# Altium footprint library Footprint.PcbLib: 97 footprints (part 1 of 7)
Each footprint in its own frame and in the unit in brackets; x right, y up, seen from the top. Pads: shape width x height; smd on the part's side, far side on the other; paste and mask are expansions set on the pad; w line width, h text height; cw(c..) or ccw(c..) is an arc to the next point about the centre after c.
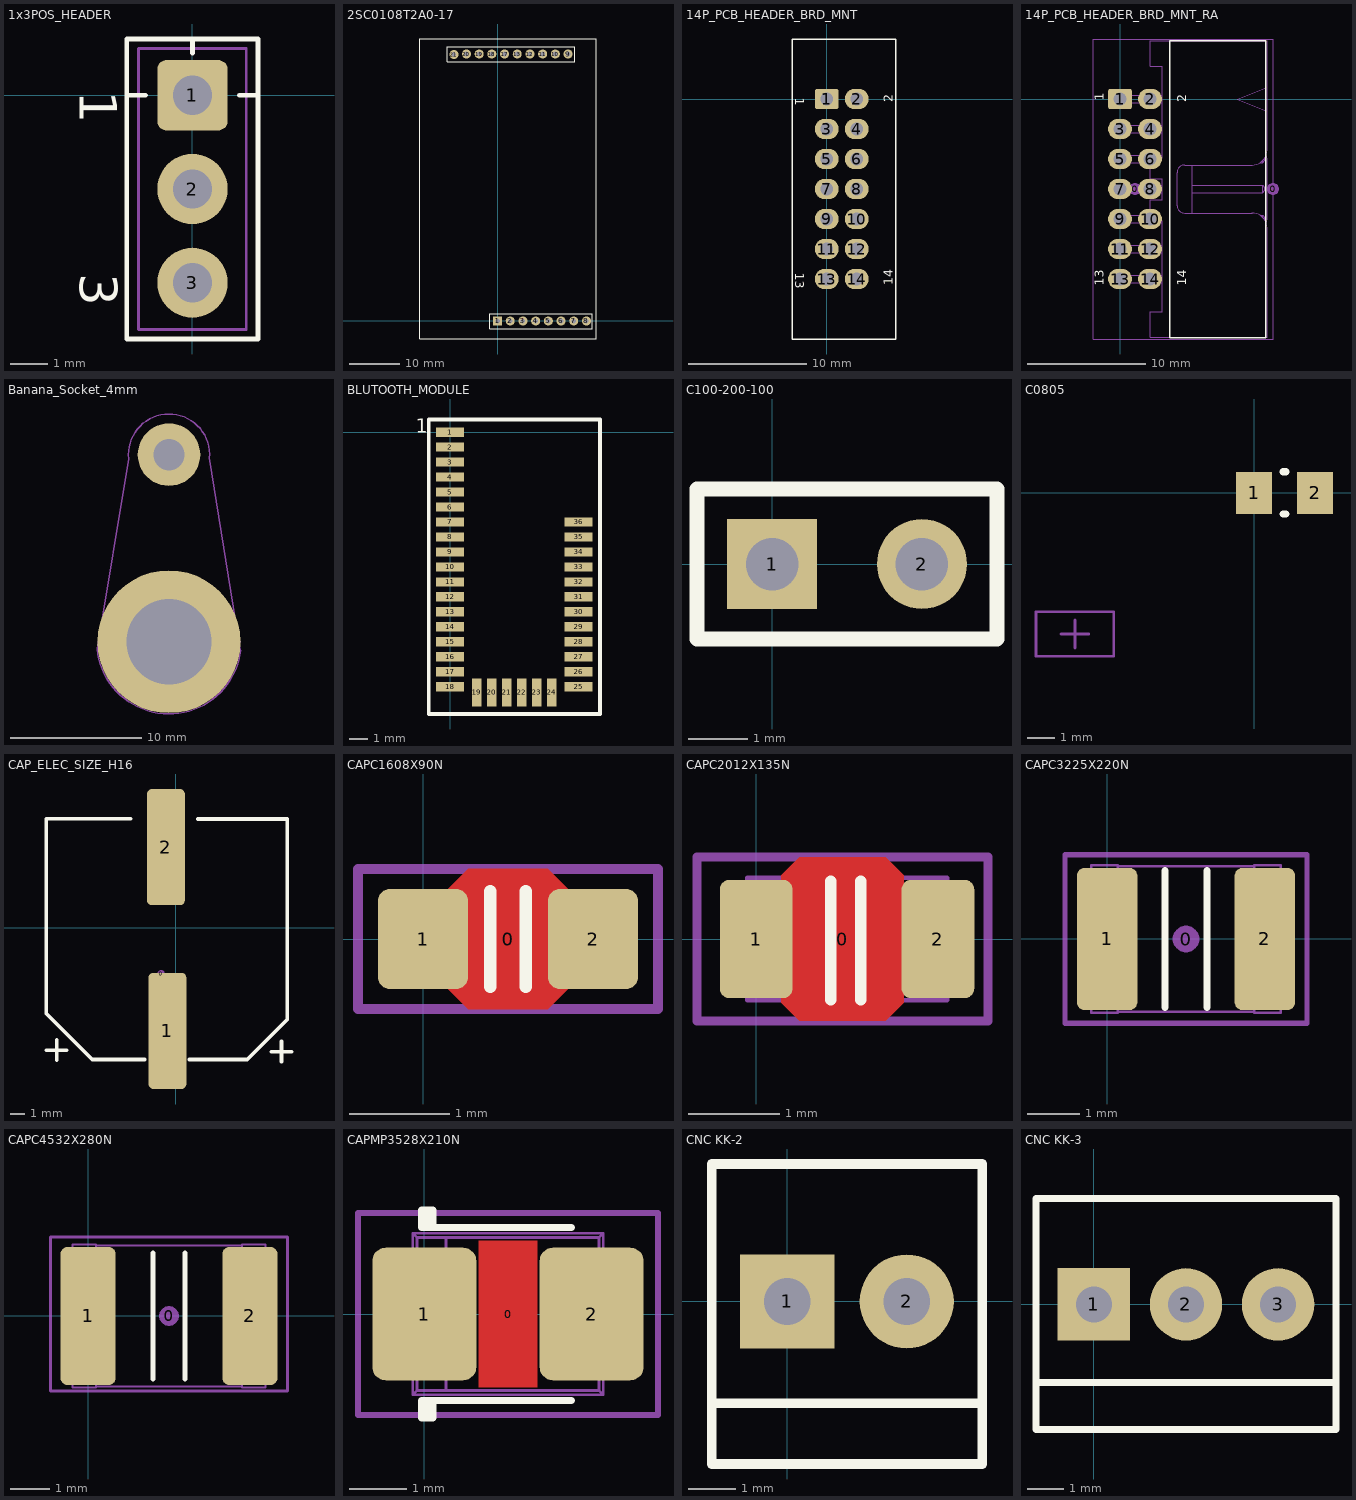
[diagram p0: the footprints below, top view; thin cyan lines are the x and y axes]

## 1x3POS_HEADER [mil] "Connector Header, Single-row 3-position, 0.100\" pitch"
height 235
pads (3):
  rrect25% 75x75 hole 42: 1(0,0)
  round 75 hole 42: 2(0,-100) 3(0,-200)
Top Overlay:
  lines w5: -70,0 -50,0 ; 0,45 0,60 ; 50,0 70,0 ; -70,-260 -70,60 70,60 70,-260 -70,-260
  text "3" at -120,-190 h40
  text "1" at -120,5 h40
Mechanical 13:
  lines w3: -57.47,-250 -57.47,50 57.49,50 57.49,-250 -57.47,-250
3D body: height 335.04, standoff -144.88, extent -57.47,-250 57.49,50

## 2SC0108T2A0-17 [mm]
pads (18):
  rect 1.8x1.8 hole 0.914 unplated: 1(0,0)
  round 1.8 hole 0.914 unplated: 2(2.54,0) 3(5.08,0) 4(7.62,0) 5(10.16,0) 6(12.7,0) 7(15.24,0) 8(17.78,0) 9(14.1,53.4) 10(11.56,53.4) 11(9.02,53.4) 12(6.48,53.4) 13(3.94,53.4) 17(1.4,53.4) 18(-1.14,53.4) 19(-3.68,53.4) 20(-6.22,53.4) 21(-8.72,53.3)
Top Overlay:
  lines w0.102: -15.56,-3.6 -15.56,56.4 19.74,56.4 19.74,-3.6 -15.56,-3.6 ; -10.06,51.9 -10.06,54.9 15.44,54.9 15.44,51.9 -10.06,51.9 ; -1.56,-1.6 -1.56,1.4 18.94,1.4 18.94,-1.6 -1.56,-1.6
3D body: height 18.4, standoff 6.4, extent -15.36,10.7 19.64,30.7
3D body: height 4.5, standoff 0, extent -1.56,4.9 18.94,7.9
3D body: height 4.5, standoff 0, extent -10.06,44.9 15.44,47.9
3D body: height 1, standoff 0, extent -15.46,-3.7 19.74,56.5
3D body: height 6.5, standoff 4.5, extent -15.06,3.9 19.23,48.9
3D body: height 4.5, standoff 0, extent -1.56,-1.6 18.94,1.4
3D body: height 4.5, standoff 0, extent -10.06,51.9 15.44,54.9

## 14P_PCB_HEADER_BRD_MNT [mil] "HEADER BRD MNT 14POS 2.54MM"
height 390
pads (14):
  rrect25% 80x68 hole 42: 1(0,0)
  oval 80x68 hole 42: 2(100,0) 3(0,-100) 4(100,-100) 5(0,-200) 6(100,-200) 7(0,-300) 8(100,-300) 9(0,-400) 10(100,-400) 11(0,-500) 12(100,-500) 13(0,-600) 14(100,-600)
Top Overlay:
  lines w5: -115,-800 230,-800 230,200 -115,200 -115,-800
  text "13" at -105,-579 h30
  text "14" at 220,-620.28 h30
  text "1" at -105,3.57 h30
  text "2" at 220,-10 h30
3D body: height 372.44, standoff -125.98, extent -125.19,-800 237.01,200

## 14P_PCB_HEADER_BRD_MNT_RA [mil] "HEADER BRD MNT R/A 14POS 2.54MM"
height 338
pads (16):
  round 40 on Mech15: 0(50,-300) 0(510,-300)
  rrect25% 80x68 hole 42: 1(0,0)
  oval 80x68 hole 42: 2(100,0) 3(0,-100) 4(100,-100) 5(0,-200) 6(100,-200) 7(0,-300) 8(100,-300) 9(0,-400) 10(100,-400) 11(0,-500) 12(100,-500) 13(0,-600) 14(100,-600)
Top Overlay:
  lines w5: 165,-795 485,-795 485,195 165,195 165,-795
  text "13" at -55,-623 h30
  text "14" at 220,-623 h30
  text "1" at -55,-5 h30
  text "2" at 220,-10 h30
Mechanical 13:
  lines w1.97: 32.5,-612.25 32.5,-587.75 ; 32.5,-512.25 32.5,-487.75 ; 32.5,-412.25 32.5,-387.75 ; 32.5,-312.25 32.5,-287.75 ; 32.5,-212.25 32.5,-187.75 ; 32.5,-112.25 32.5,-87.75 ; 32.5,-12.25 32.5,12.25 ; 100,-387.75 -12.5,-387.75 -12.5,-412.25 140,-412.25 ; 100,-212.25 -12.5,-212.25 -12.5,-187.75 140,-187.75 ; 140,-612.25 -12.5,-612.25 -12.5,-587.75 140,-587.75 ; 140,-512.25 -12.5,-512.25 -12.5,-487.75 140,-487.75 ; 140,-312.25 -12.5,-312.25 -12.5,-287.75 140,-287.75 ; 140,-112.25 -12.5,-112.25 -12.5,-87.75 140,-87.75 ; 140,-12.25 -12.5,-12.25 -12.5,12.25 140,12.25 ; 240,-380 240,-220 ; 240,-312.25 475,-312.25 ; 240,-287.75 475,-287.75 ; 466.74,-387.75 475,-387.75 ; 466.74,-212.25 475,-212.25 ; 475,-394.29 475,-387.75 ; 475,-205.71 475,-212.25 ; 483,-404.25 483,-395.75 475,-387.75 ; 483,-195.75 483,-204.25 475,-212.25 ; 487.7,-415 ccw(c440,-400) 490,-400 490,-200 ccw(c440,-200) 487.7,-185 ; 490,-40 390,0 490,40 ; 475,-312.25 483,-304.25 483,-295.75 475,-287.75 ; 475,-312.25 475,-287.75 ; 100,-794 100,-709 140,-709 140,-405 100,-405 100,-335 140,-335 140,-265 100,-265 100,-195 140,-195 140,109 100,109 100,194 490,194 490,-170 cw(c440,-170) 440,-220 215,-220 ccw(c215,-245) 190,-245 190,-355 ccw(c215,-355) 215,-380 440,-380 cw(c440,-430) 490,-430 490,-794 100,-794
Mechanical 15:
  lines w3: -90,-800 510,-800 510,200 -90,200 -90,-800
3D body: height 340, standoff -112, extent -12.49,-793.99 490.01,194.01

## Banana_Socket_4mm [mil]
pads (2):
  round 429.13 hole 255.91: ""(50445,50035)
  round 188 hole 94: ""(50445,50597)
Mechanical 1:
  lines w4: 50659,50035 50660,50035 ; 50229.06,50013.63 ccw(c50445,50035) 50660.51,50009.57 50659,50009.57 50566,50586.91 50566.58,50586.91 ccw(c50445,50597) 50323.64,50584.53 50229.06,50013.63
3D body: height 83, standoff 0, extent 50231.69,49820.42 50660,50249.58
3D body: height 166, standoff 83, extent 50209.87,49798.47 50682,50271.53
3D body: height 402, standoff 166, extent 50249.56,49838.39 50642,50231.61
3D body: height 257, standoff 0, extent 50319,49908.25 50572,50161.75
3D body: height 10, standoff 0, extent 50239,50073.65 50646.69,50554
3D body: height 10, standoff 0, extent 50318.58,50550 50447,50718
3D body: height 10, standoff 0, extent 50442,50550 50571.62,50718
3D body: height 403, standoff 402, extent 50350.75,49940.19 50540,50129.81

## BLUTOOTH_MODULE [mm]
pads (36):
  rect 1.5x0.5 smd: 1(0,0) 2(0,-0.8) 3(0,-1.6) 4(0,-2.4) 5(0,-3.2) 6(0,-4) 7(0,-4.8) 8(0,-5.6) 9(0,-6.4) 10(0,-7.2) 11(0,-8) 12(0,-8.8) 13(0,-9.6) 14(0,-10.4) 15(0,-11.2) 16(0,-12) 17(0,-12.8) 18(0,-13.6) 25(6.85,-13.6) 26(6.85,-12.8) 27(6.85,-12) 28(6.85,-11.2) 29(6.85,-10.4) 30(6.85,-9.6) 31(6.85,-8.8) 32(6.85,-8) 33(6.85,-7.2) 34(6.85,-6.4) 35(6.85,-5.6) 36(6.85,-4.8)
  rect 0.5x1.5 smd: 19(1.425,-13.9) 20(2.225,-13.9) 21(3.025,-13.9) 22(3.825,-13.9) 23(4.625,-13.9) 24(5.425,-13.9)
Top Overlay:
  lines w0.2: -1.15,-15.05 -1.15,0.675 8,0.675 8,-15.05 -1.15,-15.05
  text "1" at -1.829,-0.305 h1.27

## C100-200-100 [mil] "Radial Cap, Thru-Hole; 2 Leads; 0.1 in Pin Spacing"
pads (2):
  rect 60x60 hole 35: 1(0,0)
  round 60 hole 35: 2(100,0)
Top Overlay:
  lines w10: -50,-50 -50,50 150,50 150,-50 -50,-50
3D body: height 245, standoff -66.85, extent -64.93,-35 164.93,31.79

## C0805 [mm] "Chip Capacitor, Body 2.0x1.3mm, IPC High Density"
height 1.4
pads (2):
  rect 1.3x1.5 smd: 1(0,0) 2(2.2,0)
Top Overlay:
  lines w0.254: 1.049,-0.762 1.151,-0.762 ; 1.049,0.762 1.151,0.762
Mechanical 15:
  lines w0.1: -6.952,-5.08 -5.952,-5.08 ; -6.452,-5.58 -6.452,-4.58 ; -7.852,-5.88 -5.052,-5.88 -5.052,-4.28 -7.852,-4.28 -7.852,-5.88
3D body: height 0.78, standoff 0, extent 0.1,-0.635 2.1,0.615

## CAP_ELEC_SIZE_H16 [mil] "Capacitor, polarized, aluminum can; 16x6mm DxH"
height 629.92
pads (3):
  round 20 on Mech15: 0(-40,-124)
  rrect25% 102.36x314.96 smd: 1(-23,-279) 2(-27,219)
Top Overlay:
  lines w10: -350.46,-331.15 -295.35,-331.15 ; -322.91,-358.71 -322.91,-303.59 ; -122,295.94 -351,295.94 -351,-232.06 -226.35,-356.71 -84,-356.71 ; 37.12,-356.71 193.35,-356.71 302,-248.06 302,294.94 59,294.94 ; 258.54,-335.15 313.65,-335.15 ; 286.09,-362.71 286.09,-307.59
Mechanical 13:
  lines w1.97: -35.72,-399.74 -35.72,-425.33 -0.28,-425.33 -0.28,-399.74 ; -35.72,139.63 -35.72,165.22 -0.28,165.22 -0.28,139.63
3D body: height 669.29, standoff 0, extent -347.8,-388.27 301.81,308.58

## CAPC1608X90N [mm] "Chip Capacitor, Body 1.6x0.8mm, EIA 0603, IPC Medium Density"
height 0.9
pads (3):
  round 0.254 on Mech15: 0(0.85,0)
  rrect25% 0.9x1 smd: 1(0,0) 2(1.7,0)
Top Layer:
  pour cut-out: 0.25,0.5 0.45,0.7 1.25,0.7 1.45,0.5 1.45,-0.5 1.25,-0.7 0.45,-0.7 0.25,-0.5
Top Overlay:
  lines w0.127: 0.672,-0.476 0.672,0.476 ; 1.028,-0.476 1.028,0.476
Mechanical 13:
  lines w0.05: 0.3,-0.43 1.4,-0.43 ; 0.3,0.43 1.4,0.43 ; 0,-0.45 0.3,-0.45 0.3,0.45 0,0.45 0,-0.45 ; 1.4,-0.45 1.7,-0.45 1.7,0.45 1.4,0.45 1.4,-0.45
Mechanical 15:
  lines w0.1: -0.65,-0.7 2.35,-0.7 2.35,0.7 -0.65,0.7 -0.65,-0.7
3D body: height 0.89, standoff -0.01, extent 0,-0.45 1.7,0.45

## CAPC2012X135N [mm] "Chip Capacitor, Body 2.0x1.2mm, EIA 0805, IPC Medium Density"
height 1.35
pads (3):
  round 0.254 on Mech15: 0(0.949,0)
  rrect25% 0.8x1.3 smd: 1(0,0) 2(2,0)
Top Layer:
  pour cut-out: 0.274,0.7 0.474,0.9 1.424,0.9 1.624,0.7 1.624,-0.7 1.424,-0.9 0.474,-0.9 0.274,-0.7
Top Overlay:
  lines w0.127: 0.822,-0.667 0.822,0.635 ; 1.152,-0.667 1.152,0.635
Mechanical 13:
  lines w0.05: 1.6,-0.674 0.4,-0.674 ; 0.4,-0.675 0.4,0.675 -0.1,0.675 -0.1,-0.675 0.4,-0.675 ; 0.4,-0.674 1.6,-0.674 ; 1.6,-0.675 1.6,0.675 ; 1.6,-0.675 2.1,-0.675 2.1,0.675 1.6,0.675 ; 1.6,0.674 0.4,0.674 1.6,0.674
Mechanical 15:
  lines w0.1: -0.651,-0.9 -0.651,0.9 2.549,0.9 2.549,-0.9 -0.651,-0.9
3D body: height 0.69, standoff -0.01, extent -0.1,-0.675 2.1,0.675

## CAPC3225X220N [mm] "Chip Capacitor, Body 3.2x2.5mm, EIA 1210, IPC Medium Density"
height 2.2
pads (3):
  round 0.508 on Mech15: 0(1.5,0)
  rrect25% 1.15x2.7 smd: 1(0,0) 2(3,0)
Top Overlay:
  lines w0.127: 1.1,-1.3 1.1,1.3 ; 1.9,-1.3 1.9,1.3
Mechanical 13:
  lines w0.05: 0.2,-1.38 2.8,-1.38 ; 0.2,1.38 2.8,1.38 ; -0.3,-1.4 0.2,-1.4 0.2,1.4 -0.3,1.4 -0.3,-1.4 ; 2.8,-1.4 2.8,1.4 3.3,1.4 3.3,-1.4 2.8,-1.4
Mechanical 15:
  lines w0.1: -0.8,-1.6 -0.8,1.6 3.8,1.6 3.8,-1.6 -0.8,-1.6
3D body: height 2.19, standoff -0.01, extent -0.3,-1.4 3.3,1.4

## CAPC4532X280N [mm] "Chip Capacitor, Body 4.5x3.2mm, 1812, IPC Medium Density"
height 2.8
pads (3):
  round 0.508 on Mech15: 0(2.05,0)
  rrect25% 1.4x3.5 smd: 1(0,0) 2(4.1,0)
Top Overlay:
  lines w0.127: 1.65,-1.6 1.65,1.6 ; 2.45,-1.6 2.45,1.6
Mechanical 13:
  lines w0.05: 0.2,-1.791 3.9,-1.791 ; 0.2,1.791 3.9,1.791 ; -0.4,-1.811 -0.4,1.811 0.2,1.811 0.2,-1.811 -0.4,-1.811 ; 3.9,-1.811 4.5,-1.811 4.5,1.811 3.9,1.811 3.9,-1.811
Mechanical 15:
  lines w0.076: -0.95,-1.9 -0.95,2 5.05,2 5.05,-1.9 -0.95,-1.9
3D body: height 2.79, standoff -0.01, extent -0.4,-1.8 4.5,1.8

## CAPMP3528X210N [mm] "Molded body capacitor, Body 3.5x2.8mm, 1210, IPC Nominal settings"
height 2.1
pads (3):
  round 0.254 on Mech15: 0(1.45,0)
  rrect25% 1.8x2.3 smd: 1(0,0) 2(2.9,0)
Top Layer:
  pour cut-out: 0.942,1.27 1.958,1.27 1.958,-1.27 0.942,-1.27
Top Overlay:
  lines w0.127: 0.05,-1.8 0.05,-1.5 ; 0.05,1.5 0.05,1.8 ; 0.15,-1.5 0.15,-1.8 -0.05,-1.8 -0.05,-1.5 2.55,-1.5 ; 0.15,1.5 0.15,1.8 -0.05,1.8 -0.05,1.5 2.55,1.5
Mechanical 13:
  lines w0.05: -0.3,-0.55 -0.2,-0.55 ; -0.3,0.55 -0.2,0.55 ; -0.2,-1.1 -0.3,-1.1 -0.3,1.1 -0.2,1.1 ; 0.373,-1.327 0.373,1.327 ; 3.1,-1.1 3.2,-1.1 3.2,1.1 3.1,1.1 ; 3.1,-0.55 3.2,-0.55 ; 3.1,0.55 3.2,0.55 ; -0.2,-1.4 -0.127,-1.327 ; -0.2,-1.4 -0.2,1.4 ; -0.2,-1.4 3.1,-1.4 ; -0.2,1.4 -0.127,1.327 ; -0.2,1.4 3.1,1.4 ; -0.127,-1.327 -0.127,1.327 ; -0.127,-1.327 3.027,-1.327 ; -0.127,1.327 3.027,1.327 ; 3.027,-1.327 3.027,1.327 ; 3.027,-1.327 3.1,-1.4 ; 3.027,1.327 3.1,1.4 ; 3.1,-1.4 3.1,1.4
Mechanical 15:
  lines w0.1: -1.15,-1.75 -1.15,1.75 4.05,1.75 4.05,-1.75 -1.15,-1.75
3D body: height 2.1, standoff 0, extent -0.3,-1.4 3.2,1.4

## CNC KK-2 [mm]
pads (2):
  rect 2x2 hole 0.991: 1(0,0)
  round 2 hole 0.991: 2(2.54,0)
Top Overlay:
  lines w0.203: -1.6,-2.159 4.089,-2.159 ; -1.6,-3.454 4.14,-3.454 4.14,2.921 -1.6,2.921 -1.6,-3.454
3D body: height 10.68, standoff -3.54, extent -1.219,-3.505 3.708,2.845

## CNC KK-3 [mm]
pads (3):
  rect 2x2 hole 0.991: 1(0,0)
  round 2 hole 0.991: 2(2.54,0) 3(5.08,0)
Top Overlay:
  lines w0.203: -1.6,-2.159 6.655,-2.159 ; -1.6,-3.454 -1.6,2.921 6.68,2.921 6.68,-3.454 -1.6,-3.454
3D body: height 10.68, standoff -3.54, extent -1.143,-3.48 6.325,2.87